# Altium integrated library Altium Database Library V2.IntLib: 825 symbols (part 36 of 40)

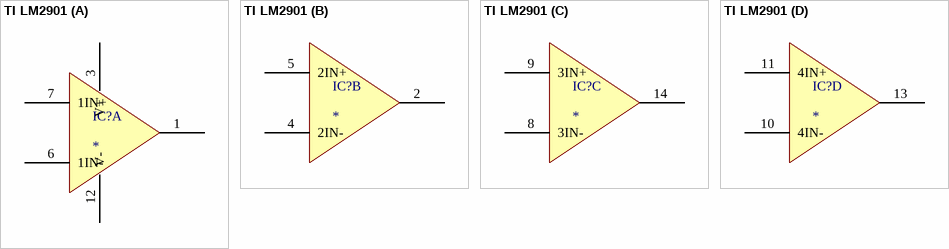
[diagram p725: symbol TI LM2901]

## TI LM2901
designator IC?
part A pins: 1 1OUT, 3 V+ (power), 6 1IN-, 7 1IN+, 12 V- (power)
part B pins: 2 2OUT, 4 2IN-, 5 2IN+
part C pins: 8 3IN-, 9 3IN+, 14 3OUT
part D pins: 10 4IN-, 11 4IN+, 13 4OUT


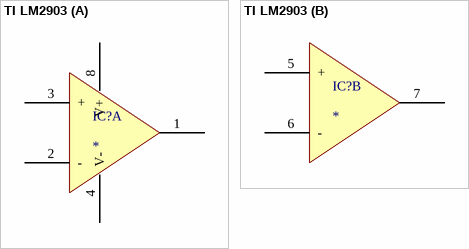
[diagram p726: symbol TI LM2903]

## TI LM2903
designator IC?
part A pins: 1 OUTA, 2 -, 3 +, 4 V-, 8 V+
part B pins: 5 +, 6 -, 7 OUTB


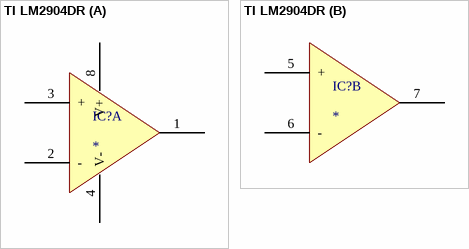
[diagram p727: symbol TI LM2904DR]

## TI LM2904DR
designator IC?
part A pins: 1 OUTA, 2 -, 3 +, 4 V-, 8 V+
part B pins: 5 +, 6 -, 7 OUTB


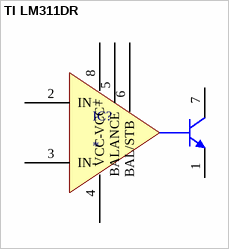
[diagram p728: symbol TI LM311DR]

## TI LM311DR
designator IC?
pins: 1 EMITOUT, 2 IN+, 3 IN-, 4 VCC- (power), 5 BALANCE, 6 BAL/STB, 7 COLOUT, 8 VCC+ (power)


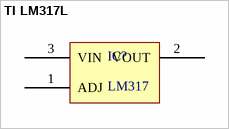
[diagram p729: symbol TI LM317L]

## TI LM317L
designator IC?, comment LM317
Wide Temperature Three-Pin Adjustable Regulator
pins: 1 ADJ, 2 VOUT, 3 VIN


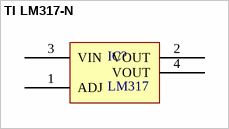
[diagram p730: symbol TI LM317-N]

## TI LM317-N
designator IC?, comment LM317
Wide Temperature Three-Pin Adjustable Regulator
pins: 1 ADJ, 2 VOUT, 3 VIN, 4 VOUT


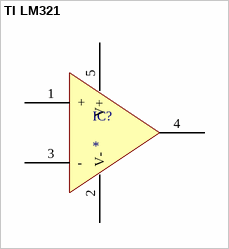
[diagram p731: symbol TI LM321]

## TI LM321
designator IC?
pins: 1 +, 2 V-, 3 -, 4 OUT, 5 V+


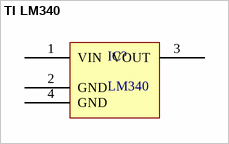
[diagram p732: symbol TI LM340]

## TI LM340
designator IC?, comment LM340
Wide Temperature Three-Pin Adjustable Regulator
pins: 1 VIN, 2 GND, 3 VOUT, 4 GND


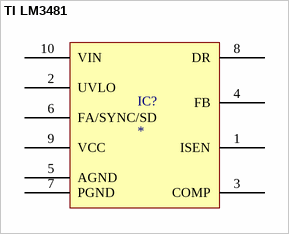
[diagram p733: symbol TI LM3481]

## TI LM3481
designator IC?
Boost, Flyback, SEPIC Regulator Positive Output Step-Up, Step-Up/Step-Down DC-DC Controller IC 10-VSSOP
pins: 1 ISEN (oc) "An open-drain output; asserts low if output voltage is low due to thermal shutdown, dropout, overvoltage or EN shutdown.", 2 UVLO "Enable pin, internal pullup current source. Pull below 1.2 V to disable. Float to enable. Adjust the input undervoltage lockout with two resistors.", 3 COMP "Error amplifier output, and input to the output switch current comparator. Connect frequency compensation components to this pin.", 4 FB "Inverting node of the transconductance (gm) error amplifier.", 5 AGND (power) "GND pin must be electrically connected to the thermal pad on the printed circuit board for proper operation.", 6 FA/SYNC/SD "Slow-start and tracking. An external capacitor connected to this pin sets the output rise time. Because the voltage on this pin overrides the internal reference, it can be used for tracking and sequencing.", 7 PGND (power) "Ground", 8 DR (power) "The source of the internal high-side power MOSFET", 9 VCC "A bootstrap capacitor is required between BOOT and PH. If the voltage on this capacitor is below the minimum required by the output device, the output is forced to switch off until the capacitor is refreshed.", 10 VIN (power) "Input supply voltage, 3.5 V to 42 V."


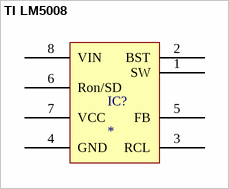
[diagram p734: symbol TI LM5008]

## TI LM5008
designator IC?
pins: 1 SW, 2 BST, 3 RCL, 4 GND, 5 FB, 6 Ron/SD, 7 VCC, 8 VIN


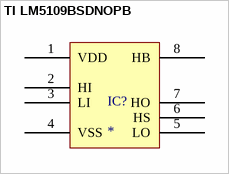
[diagram p735: symbol TI LM5109BSDNOPB]

## TI LM5109BSDNOPB
designator IC?
pins: 1 VDD, 2 HI, 3 LI, 4 VSS, 5 LO, 6 HS, 7 HO, 8 HB


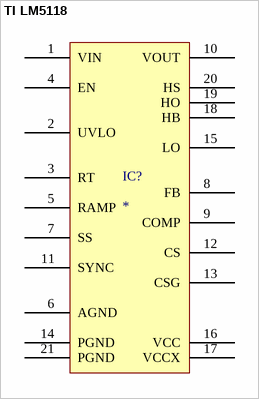
[diagram p736: symbol TI LM5118]

## TI LM5118
designator IC?
pins: 1 VIN, 2 UVLO, 3 RT, 4 EN, 5 RAMP, 6 AGND, 7 SS, 8 FB, 9 COMP, 10 VOUT, 11 SYNC, 12 CS, 13 CSG, 14 PGND, 15 LO, 16 VCC, 17 VCCX, 18 HB, 19 HO, 20 HS, 21 PGND


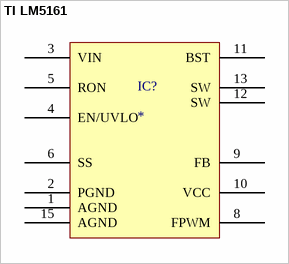
[diagram p737: symbol TI LM5161]

## TI LM5161
designator IC?
pins: 1 AGND, 2 PGND, 3 VIN, 4 EN/UVLO, 5 RON, 6 SS, 8 FPWM, 9 FB, 10 VCC, 11 BST, 12 SW, 13 SW, 15 AGND


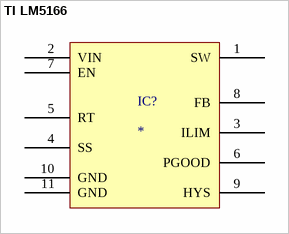
[diagram p738: symbol TI LM5166]

## TI LM5166
designator IC?
pins: 1 SW, 2 VIN, 3 ILIM, 4 SS, 5 RT, 6 PGOOD, 7 EN, 8 FB, 9 HYS, 10 GND, 11 GND


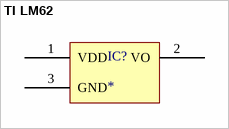
[diagram p739: symbol TI LM62]

## TI LM62
designator IC?
pins: 1 VDD, 2 VO, 3 GND


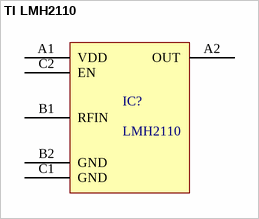
[diagram p740: symbol TI LMH2110]

## TI LMH2110
designator IC?, comment LMH2110
LMH2110 8-GHz Logarithmic RMS Power Detector with 45-dB Dynamic Range
pins: A1 VDD, A2 OUT, B1 RFIN, B2 GND, C1 GND, C2 EN


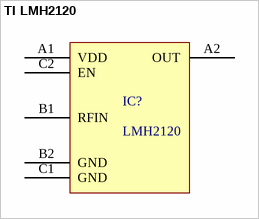
[diagram p741: symbol TI LMH2120]

## TI LMH2120
designator IC?, comment LMH2120
LMH2120 6 GHz Linear RMS Power Detector with 40 dB Dynamic Range
pins: A1 VDD, A2 OUT, B1 RFIN, B2 GND, C1 GND, C2 EN


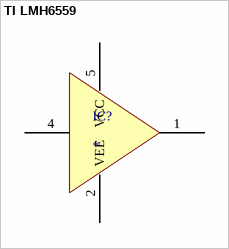
[diagram p742: symbol TI LMH6559]

## TI LMH6559
designator IC?
pins: 1 OUT, 2 VEE (power), 4 IN, 5 VCC (power)


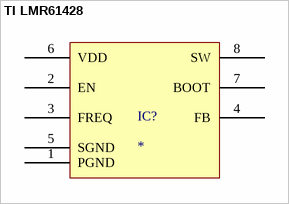
[diagram p743: symbol TI LMR61428]

## TI LMR61428
designator IC?
pins: 1 PGND, 2 EN, 3 FREQ, 4 FB, 5 SGND, 6 VDD, 7 BOOT, 8 SW


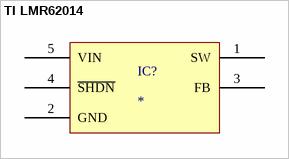
[diagram p744: symbol TI LMR62014]

## TI LMR62014
designator IC?
pins: 1 SW, 2 GND, 3 FB, 4 ~{SHDN}, 5 VIN


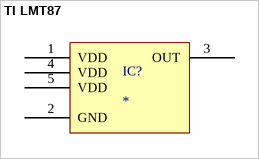
[diagram p745: symbol TI LMT87]

## TI LMT87
designator IC?
pins: 1 VDD, 2 GND, 3 OUT, 4 VDD, 5 VDD


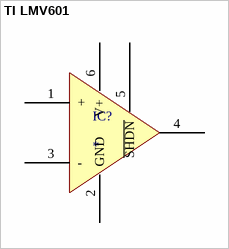
[diagram p746: symbol TI LMV601]

## TI LMV601
designator IC?
pins: 1 +, 2 GND (power), 3 -, 4 OUT, 5 ~{SHDN}, 6 V+ (power)


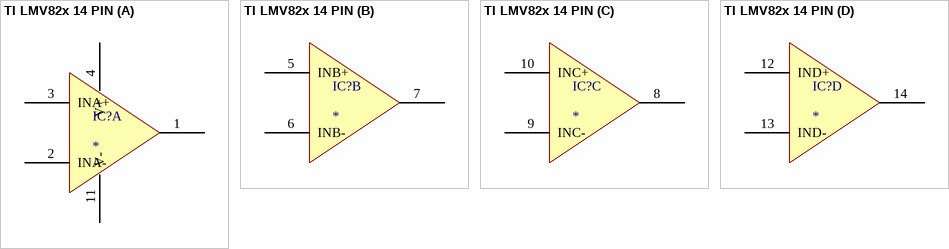
[diagram p747: symbol TI LMV82x 14 PIN]

## TI LMV82x 14 PIN
designator IC?
part A pins: 1 OUT, 2 INA-, 3 INA+, 4 V+ (power), 11 V- (power)
part B pins: 5 INB+, 6 INB-, 7 OUTB
part C pins: 8 OUTC, 9 INC-, 10 INC+
part D pins: 12 IND+, 13 IND-, 14 OUTD
